# Altium schematic symbol library Cap_Murata_ GRM21BC71E106ME11L_10uF.SchLib: 1 symbol
Pins are listed as number, name and electrical type; pins without a type are passive.

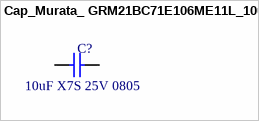
[diagram p0: symbol Cap_Murata_ GRM21BC71E106ME11L_10uF]

## Cap_Murata_ GRM21BC71E106ME11L_10uF
designator C?  Capacitance: 10uF X7S 25V 0805  (hidden comment: Cap_Murata_ GRM21BC71E106ME11L_10uF)
CAP CER 10uF 25V X7R 0805; Supplier Part Number 1: 81-GRM21BC71E106ME1L; Supplier 1: Mouser
footprint Cap_Murata_ GRM21BC71E106ME11L_10uF
pins: 1, 2